# Altium footprint library MCore.PcbLib: 45 footprints (part 1 of 3)
Each footprint in its own frame and in the unit in brackets; x right, y up, seen from the top. Pads: shape width x height; smd on the part's side, far side on the other; paste and mask are expansions set on the pad; w line width, h text height; cw(c..) or ccw(c..) is an arc to the next point about the centre after c.
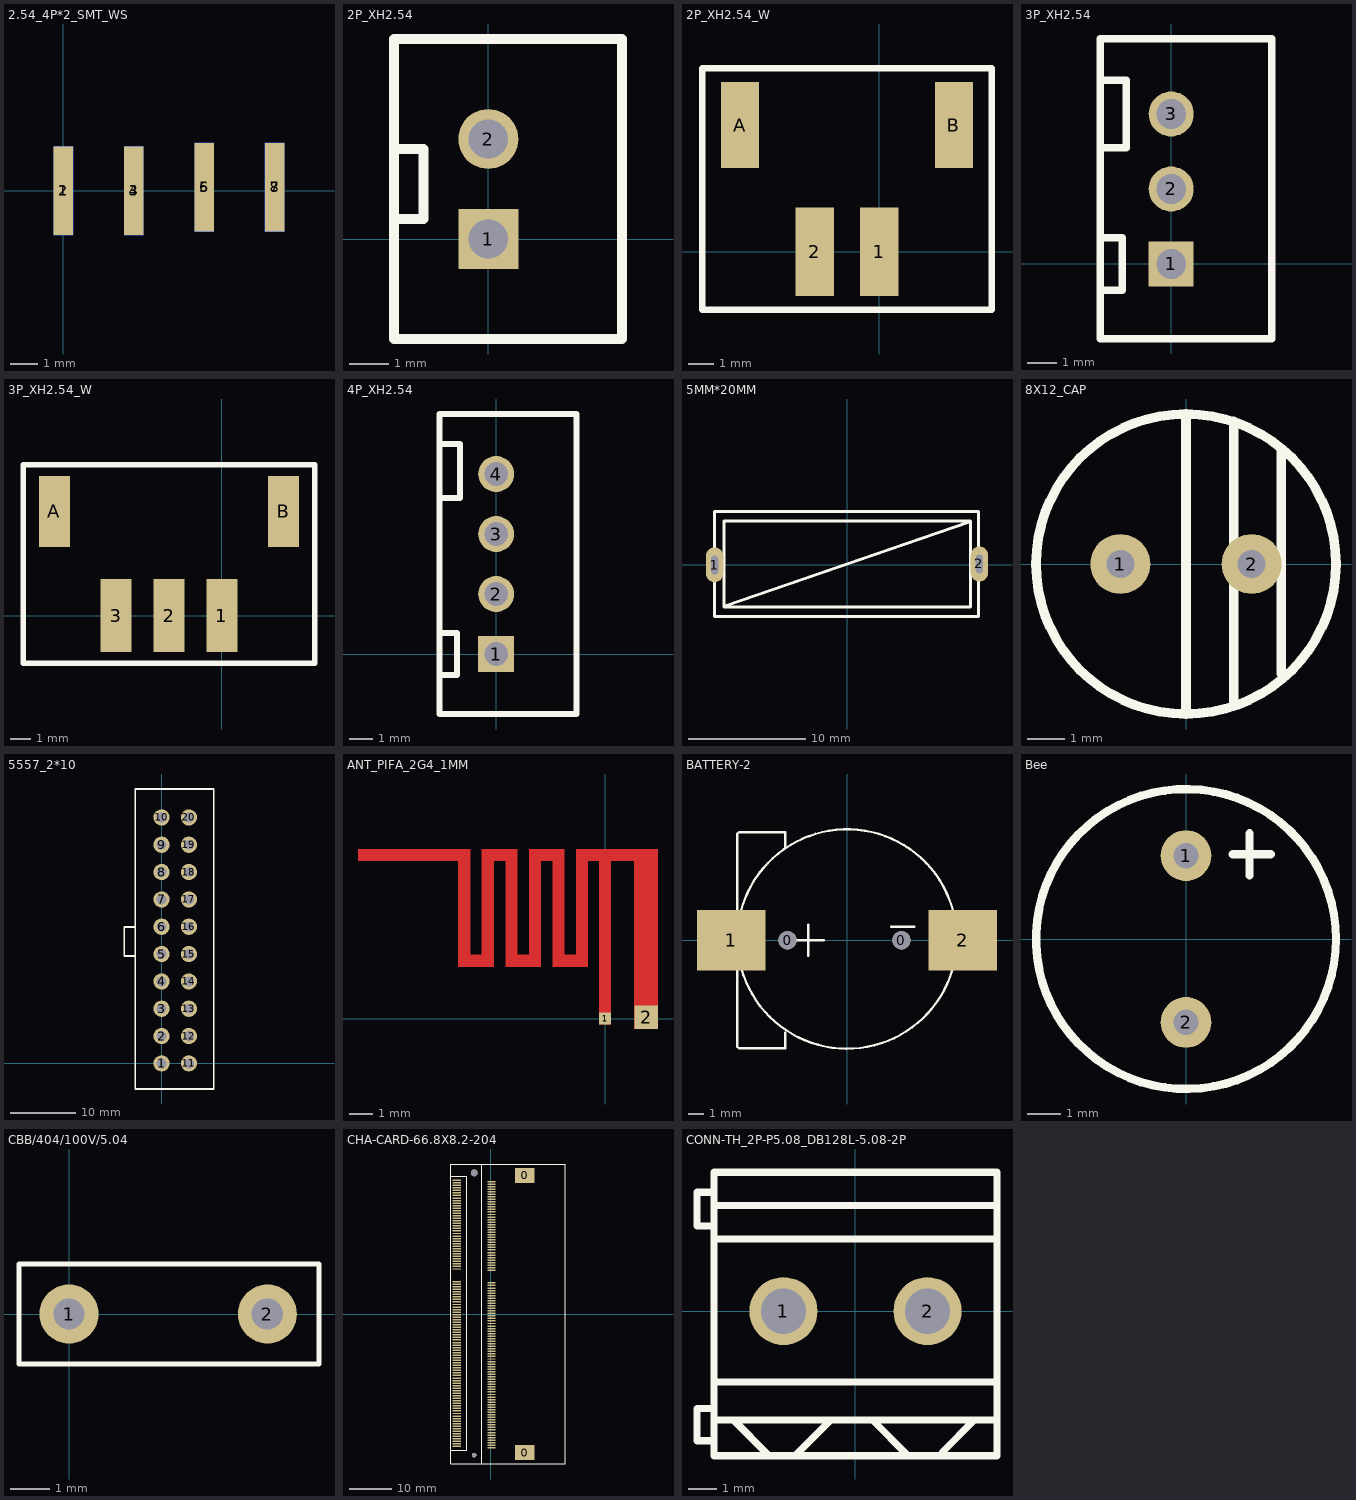
[diagram p0: the footprints below, top view; thin cyan lines are the x and y axes]

## 2.54_2P*2_SMT_WS [mm]

## 2.54_4P*2_SMT_WS [mm]
pads (8):
  rect 0.7x3.2 smd: 1(0,0) 3(2.54,0) 5(5.08,0.127) 7(7.62,0.127)
  rect 0.7x3.2 smd far side: 2(0,0) 4(2.54,0) 6(5.08,0.127) 8(7.62,0.127)

## 2P_XH2.54 [mil]
pads (2):
  rect 60x60 hole 39.37: 1(0,0)
  round 60 hole 39.37: 2(0,100)
Top Overlay:
  lines w10: -94.49,20 -65,20 -65,90 -94.49,90 ; -94.49,-100 -94.49,200 133.86,200 133.86,-100 -94.49,-100

## 2P_XH2.54_W [mm]
pads (4):
  rect 1.524x3.5 smd: 1(0,0) 2(-2.54,0)
  rect 1.5x3.4 smd: A(-5.49,5) B(2.95,5)
Top Overlay:
  lines w0.254: -6.985,-2.286 4.445,-2.286 4.445,7.239 -6.985,7.239 -6.985,-2.286

## 3P_XH2.54 [mil]
pads (3):
  rect 60x60 hole 39.37: 1(0,0)
  round 60 hole 39.37: 2(0,100) 3(0,200)
Top Overlay:
  lines w10: -94.49,-35 -65,-35 -65,35 -94.49,35 ; -94.49,155 -60,155 -60,245 -94.49,245 ; -94.49,-100 133.86,-100 133.86,300 -94.49,300 -94.49,-100

## 3P_XH2.54_W [mm]
pads (5):
  rect 1.5x3.5 smd: 1(0,0) 2(-2.54,0) 3(-5.08,0)
  rect 1.5x3.4 smd: A(-8.03,5) B(2.95,5)
Top Overlay:
  lines w0.254: -9.525,-2.286 4.445,-2.286 4.445,7.239 -9.525,7.239 -9.525,-2.286

## 4P_XH2.54 [mil]
pads (4):
  rect 60x60 hole 39.37: 1(0,0)
  round 60 hole 39.37: 2(0,100) 3(0,200) 4(0,300)
Top Overlay:
  lines w10: -94.49,-35 -65,-35 -65,35 -94.49,35 ; -94.49,260 -60,260 -60,350 -94.49,350 ; -94.49,-100 -94.49,400 133.86,400 133.86,-100 -94.49,-100

## 5MM*20MM [mm]
pads (2):
  oval 1.5x3 hole 0.6 slot 1.6 at 90 deg copper offset 0.001,0.03: 1(-11.356,-0.05)
  oval 1.5x3 hole 0.6 slot 1.6 at 90 deg copper offset -0.001,0: 2(11.326,0.052)
Top Overlay:
  lines w0.254: -10.456,-3.549 10.444,3.651 ; -11.356,-4.449 -11.356,2.99 -11.356,4.551 11.244,4.551 11.244,-4.449 -11.356,-4.449 ; -10.556,-3.649 10.544,-3.649 10.544,3.751 -10.556,3.751 -10.556,-3.649

## 8X12_CAP [mm]
pads (2):
  round 1.6 hole 0.75: 1(-1.75,0) 2(1.75,0)
Top Overlay:
  circle w0.254: c0,0 r4
  lines w0.254: 0,-3.937 0,3.937 ; 1.27,-3.683 1.27,3.81 ; 2.54,-2.921 2.54,3.048

## 5557_2*10 [mm]
pads (20):
  round 2.5 hole 1.5: 1(0,0) 2(0,4.2) 3(0,8.4) 4(0,12.6) 5(0,16.8) 6(0,21) 7(0,25.2) 8(0,29.4) 9(0,33.6) 10(0,37.8) 11(4.2,0) 12(4.2,4.2) 13(4.2,8.4) 14(4.2,12.6) 15(4.2,16.8) 16(4.2,21) 17(4.2,25.2) 18(4.2,29.4) 19(4.2,33.6) 20(4.2,37.8)
Top Overlay:
  lines w0.254: -4.191,16.51 -5.715,16.51 -5.715,20.955 -4.064,20.955 ; -4.064,-3.937 8.001,-3.937 8.001,42.164 -4.064,42.164 -4.064,-3.937

## ANT_PIFA_2G4_1MM [mm]
pads (2):
  rect 0.5x0.5 smd: 1(0,0)
  rect 1x1 smd: 2(1.75,0.06)
Top Layer:
  region: -5.73,7.2 -10.5,7.2 -10.5,6.7 -5.73,6.7
  region: 2.25,6.95 1.25,6.95 1.25,-0.441 2.25,-0.441
  region: -5.73,7.2 -6.23,7.2 -6.23,2.2 -5.73,2.2
  region: -4.73,2.7 -6.23,2.7 -6.23,2.2 -4.73,2.2
  region: -4.73,7.2 -5.23,7.2 -5.23,2.2 -4.73,2.2
  region: -3.73,7.2 -5.23,7.2 -5.23,6.7 -3.73,6.7
  region: -3.73,7.2 -4.23,7.2 -4.23,2.2 -3.73,2.2
  region: -2.73,2.7 -4.23,2.7 -4.23,2.2 -2.73,2.2
  region: -2.73,7.2 -3.23,7.2 -3.23,2.2 -2.73,2.2
  region: -1.73,7.2 -3.23,7.2 -3.23,6.7 -1.73,6.7
  region: -1.73,7.2 -2.23,7.2 -2.23,2.2 -1.73,2.2
  region: -0.73,2.7 -2.23,2.7 -2.23,2.2 -0.73,2.2
  region: -0.73,7.2 -1.23,7.2 -1.23,2.2 -0.73,2.2
  region: 2.25,7.2 -1.23,7.2 -1.23,6.7 2.25,6.7
  region: 0.25,6.95 -0.25,6.95 -0.25,-0.25 0.25,-0.25
Top Solder:
  region: -0.73,2.7 -2.23,2.7 -2.23,2.2 -0.73,2.2
  region: -2.73,2.7 -4.23,2.7 -4.23,2.2 -2.73,2.2
  region: -0.73,7.2 -1.23,7.2 -1.23,2.2 -0.73,2.2
  region: -1.73,7.2 -2.23,7.2 -2.23,2.2 -1.73,2.2
  region: -2.73,7.2 -3.23,7.2 -3.23,2.2 -2.73,2.2
  region: -3.73,7.2 -4.23,7.2 -4.23,2.2 -3.73,2.2
  region: -5.73,7.2 -6.23,7.2 -6.23,2.2 -5.73,2.2
  region: 0.25,6.95 -0.25,6.95 -0.25,0.346 0.25,0.346
  region: 2.25,7.2 -1.23,7.2 -1.23,6.7 2.25,6.7
  region: -1.73,7.2 -3.23,7.2 -3.23,6.7 -1.73,6.7
  region: -3.73,7.2 -5.23,7.2 -5.23,6.7 -3.73,6.7
  region: -4.73,7.2 -5.23,7.2 -5.23,2.2 -4.73,2.2
  region: -4.73,2.7 -6.23,2.7 -6.23,2.2 -4.73,2.2
  region: -5.73,7.2 -10.5,7.2 -10.5,6.7 -5.73,6.7
  region: 2.25,6.95 1.25,6.95 1.25,0.6 2.25,0.6

## BATTERY-2 [mm]
pads (4):
  round 1.2 hole 1.2: 0(-3.912,0) 0(3.581,0)
  rect 4.5x4 smd: 1(-7.62,0) 2(7.62,0)
Top Overlay:
  lines w0.152: -4.064,-6.096 -4.064,-7.112 -7.112,-7.112 -7.22,-7.004 -7.22,0 -7.22,7.004 -7.112,7.112 -4.064,7.112 -4.064,6.096 ; -3.556,0 -1.524,0 ; -2.54,-1.016 -2.54,1.016 ; 2.909,0.889 4.433,0.889 ; 7.219,-0.127 cw(c0.002,0.081) 7.221,0

## Bee [mil]
pads (2):
  round 60 hole 30: 1(0,98.43) 2(0,-98.43)
Top Overlay:
  circle w10: c0,0 r177.17
  lines w10: 55,100 100,100 ; 75,75 75,125

## CBB/404/100V/5.04 [mm]
pads (2):
  round 1.5 hole 0.8: 1(0,0) 2(5.04,0)
Top Overlay:
  lines w0.127: -1.27,-1.27 -1.27,1.27 6.35,1.27 6.35,-1.27 -1.27,-1.27

## CHA-CARD-66.8X8.2-204 [mm]
pads (208):
  rect 4.6x3.5 smd: 0(8.05,-32.8) 0(8.05,32.801)
  rect 2x0.35 smd: 1(-8.05,31.65) 2(0.15,31.351) 3(-8.05,31.05) 4(0.15,30.75) 5(-8.05,30.45) 6(0.15,30.149) 7(-8.05,29.85) 8(0.15,29.55) 9(-8.05,29.25) 10(0.15,28.95) 11(-8.05,28.65) 12(0.15,28.351) 13(-8.05,28.05) 14(0.15,27.75) 15(-8.05,27.45) 16(0.15,27.15) 17(-8.05,26.85) 18(0.15,26.55) 19(-8.05,26.25) 20(0.15,25.951) 21(-8.05,25.65) 22(0.15,25.35) 23(-8.05,25.05) 24(0.15,24.749) 25(-8.05,24.45) 26(0.15,24.15) 27(-8.05,23.85) 28(0.15,23.55) 29(-8.05,23.25) 30(0.15,22.951) 31(-8.05,22.65) 32(0.15,22.35) 33(-8.05,22.05) 34(0.15,21.75) 35(-8.05,21.45) 36(0.15,21.15) 37(-8.05,20.85) 38(0.15,20.551) 39(-8.05,20.25) 40(0.15,19.95) 41(-8.05,19.65) 42(0.15,19.349) 43(-8.05,19.05) 44(0.15,18.75) 45(-8.05,18.45) 46(0.15,18.15) 47(-8.05,17.85) 48(0.15,17.551) 49(-8.05,17.25) 50(0.15,16.95) 51(-8.05,16.65) 52(0.15,16.349) 53(-8.05,16.05) 54(0.15,15.75) 55(-8.05,15.45) 56(0.15,15.151) 57(-8.05,14.85) 58(0.15,14.55) 59(-8.05,14.25) 60(0.15,13.949) 61(-8.05,13.65) 62(0.15,13.35) 63(-8.05,13.05) 64(0.15,12.75) 65(-8.05,12.45) 66(0.15,12.151) 67(-8.05,11.85) 68(0.15,11.55) 69(-8.05,11.25) 70(0.15,10.949) 71(-8.05,10.65) 72(0.15,10.35) 73(-8.05,7.65) 74(0.15,7.35) 75(-8.05,7.05) 76(0.15,6.751) 77(-8.05,6.45) 78(0.15,6.15) 79(-8.05,5.85) 80(0.15,5.549) 81(-8.05,5.25) 82(0.15,4.95) 83(-8.05,4.65) 84(0.15,4.351) 85(-8.05,4.05) 86(0.15,3.751) 87(-8.05,3.45) 88(0.15,3.149) 89(-8.05,2.85) 90(0.15,2.55) 91(-8.05,2.25) 92(0.15,1.95) 93(-8.05,1.65) 94(0.15,1.351) 95(-8.05,1.05) 96(0.15,0.75) 97(-8.05,0.45) 98(0.15,0.149) 99(-8.05,-0.15) 100(0.15,-0.45) 101(-8.05,-0.75) 102(0.15,-1.05) 103(-8.05,-1.35) 104(0.15,-1.649) 105(-8.05,-1.95) 106(0.15,-2.25) 107(-8.05,-2.55) 108(0.15,-2.85) 109(-8.05,-3.15) 110(0.15,-3.45) 111(-8.05,-3.75) 112(0.15,-4.049) 113(-8.05,-4.35) 114(0.15,-4.65) 115(-8.05,-4.95) 116(0.15,-5.251) 117(-8.05,-5.55) 118(0.15,-5.85) 119(-8.05,-6.15) 120(0.15,-6.45) 121(-8.05,-6.75) 122(0.15,-7.049) 123(-8.05,-7.35) 124(0.15,-7.65) 125(-8.05,-7.95) 126(0.15,-8.25) 127(-8.05,-8.55) 128(0.15,-8.85) 129(-8.05,-9.15) 130(0.15,-9.449) 131(-8.05,-9.75) 132(0.15,-10.05) 133(-8.05,-10.35) 134(0.15,-10.651) 135(-8.05,-10.95) 136(0.15,-11.25) 137(-8.05,-11.55) 138(0.15,-11.85) 139(-8.05,-12.15) 140(0.15,-12.449) 141(-8.05,-12.75) 142(0.15,-13.05) 143(-8.05,-13.35) 144(0.15,-13.65) 145(-8.05,-13.95) 146(0.15,-14.25) 147(-8.05,-14.55) 148(0.15,-14.849) 149(-8.05,-15.15) 150(0.15,-15.45) 151(-8.05,-15.75) 152(0.15,-16.051) 153(-8.05,-16.35) 154(0.15,-16.65) 155(-8.05,-16.95) 156(0.15,-17.25) 157(-8.05,-17.55) 158(0.15,-17.849) 159(-8.05,-18.15) 160(0.15,-18.45) 161(-8.05,-18.75) 162(0.15,-19.051) 163(-8.05,-19.35) 164(0.15,-19.65) 165(-8.05,-19.95) 166(0.15,-20.249) 167(-8.05,-20.55) 168(0.15,-20.85) 169(-8.05,-21.15) 170(0.15,-21.451) 171(-8.05,-21.75) 172(0.15,-22.05) 173(-8.05,-22.35) 174(0.15,-22.65) 175(-8.05,-22.95) 176(0.15,-23.249) 177(-8.05,-23.55) 178(0.15,-23.85) 179(-8.05,-24.15) 180(0.15,-24.451) 181(-8.05,-24.75) 182(0.15,-25.05) 183(-8.05,-25.35) 184(0.15,-25.649) 185(-8.05,-25.95) 186(0.15,-26.249) 187(-8.05,-26.55) 188(0.15,-26.851) 189(-8.05,-27.15) 190(0.15,-27.45) 191(-8.05,-27.75) 192(0.15,-28.05) 193(-8.05,-28.35) 194(0.15,-28.649) 195(-8.05,-28.95) 196(0.15,-29.25) 197(-8.05,-29.55) 198(0.15,-29.851) 199(-8.05,-30.15) 200(0.15,-30.45) 201(-8.05,-30.75) 202(0.15,-31.049) 203(-8.05,-31.35) 204(0.15,-31.649)
  round 1.1 hole 1.1 unplated: ""(-3.95,-33.4)
  round 1.6 hole 1.6 unplated: ""(-3.95,33.4)
Top Overlay:
  lines w0.254: -9.35,-32.25 -5.75,-32.25 -5.75,32.55 -9.35,32.55 ; -2.15,-35.4 -2.15,35.5 ; -9.45,-35.5 -9.45,35.5 17.55,35.5 17.55,-35.5 -9.45,-35.5

## CONN-TH_2P-P5.08_DB128L-5.08-2P [mm]
pads (2):
  round 2.4 hole 1.6: 1(-2.54,0) 2(2.54,0)
Top Overlay:
  lines w0.254: -4.99,-5.1 -4.99,4.9 4.9,4.9 ; -4.99,-3.838 4.99,-3.838 ; -4.99,-2.469 -4.956,-2.503 4.99,-2.503 ; -4.99,2.54 4.99,2.54 ; -4.99,3.729 4.99,3.729 ; -4.988,-4.572 -5.588,-4.572 -5.588,-3.428 -4.988,-3.428 ; -4.988,3.003 -5.588,3.003 -5.588,4.192 -4.988,4.192 ; -4.96,-5.1 4.99,-5.1 4.99,4.9 ; -4.277,-3.838 -4.277,-3.866 -3.083,-5.06 ; -2.092,-5.06 -2.092,-5.057 -0.873,-3.838 ; 0.473,-3.838 0.597,-3.838 1.819,-5.06 ; 3.064,-5.06 3.064,-4.962 4.187,-3.838